# Altium footprint library INDC3924X34M.PcbLib: 1 footprints
Each footprint in its own frame and in the unit in brackets; x right, y up, seen from the top. Pads: shape width x height; smd on the part's side, far side on the other; paste and mask are expansions set on the pad; w line width, h text height; cw(c..) or ccw(c..) is an arc to the next point about the centre after c.
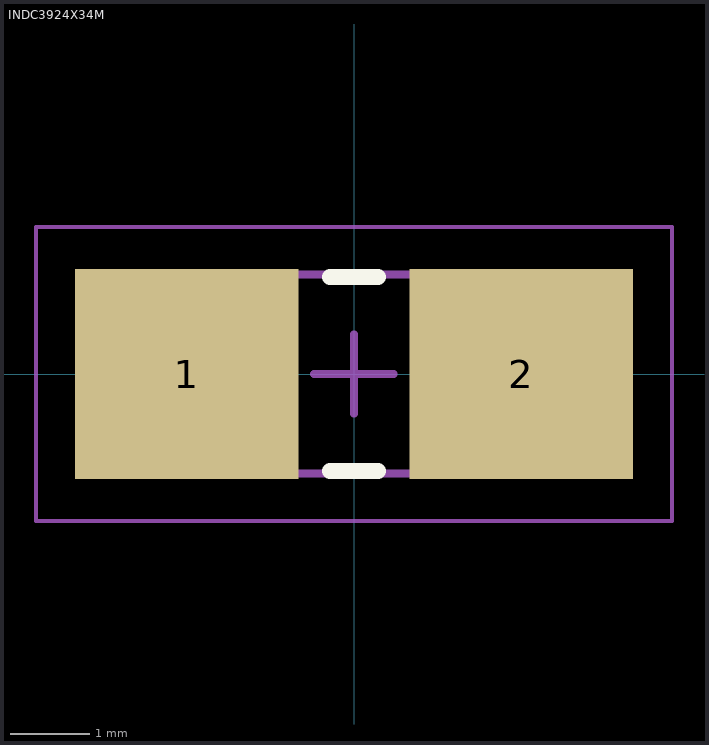
[diagram p0: the footprint, top view; thin cyan lines are the x and y axes]

## INDC3924X34M [mm] "Chip Inductor, 2-Leads, Body 3,85x2,40mm, IPC Low Density"
height 3.4
pads (2):
  rect 2.81x2.64 smd: 1(-2.1,0) 2(2.1,0)
Top Overlay:
  lines w0.2: -0.3,-1.22 0.3,-1.22 ; -0.3,1.22 0.3,1.22
Mechanical 13:
  lines w0.1: -2.95,-1.25 2.95,-1.25 2.95,1.25 -2.95,1.25 -2.95,-1.25
Mechanical 15:
  lines w0.05: -4,-1.85 4,-1.85 4,1.85 -4,1.85 -4,-1.85
  lines w0.1: -0.5,0 0.5,0 ; 0,-0.5 0,0.5
3D body: height 3.4, standoff 0, extent 2.75,-1.25 2.95,1.25
3D body: height 3.4, standoff 0, extent -2.95,-1.25 -2.75,1.25
3D body: height 3.4, standoff 0, extent -2.75,-1.25 2.75,1.25